# Altium schematic symbol library RESISTENCIA.SchLib: 1 symbol
Pins are listed as number, name and electrical type; pins without a type are passive.

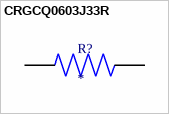
[diagram p0: symbol CRGCQ0603J33R]

## CRGCQ0603J33R
designator R?
Fixed Resistor CRGCQ 0603 33R 5%; MP: CRGCQ0603J33R; Package: None; Price: None; Value: *; Availability: Unavailable
footprint RESC1608X55N
pins: 1, 2